# EAGLE library part 1X08 (library HAB)
1X08 1x8 header
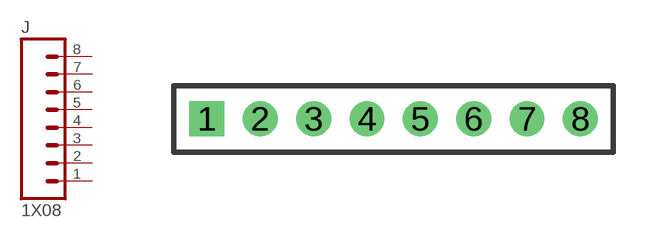
[diagram p6: symbol with the pads of 1X08-2MM; footprint 1X08-2MM]

Designator prefix J

## 1X08  [1X08-2MM]
1  1  pas
2  2  pas
3  3  pas
4  4  pas
5  5  pas
6  6  pas
7  7  pas
8  8  pas

## Footprint 1X08-2MM (pad centres in mm)
drill 0.8 square: 1 0,0
drill 0.8: 2 2,0; 3 4,0; 4 6,0; 5 8,0; 6 10,0; 7 12,0; 8 14,0